# Altium footprint library wes-iot.PcbLib: 3 footprints
Each footprint in its own frame and in the unit in brackets; x right, y up, seen from the top. Pads: shape width x height; smd on the part's side, far side on the other; paste and mask are expansions set on the pad; w line width, h text height; cw(c..) or ccw(c..) is an arc to the next point about the centre after c.
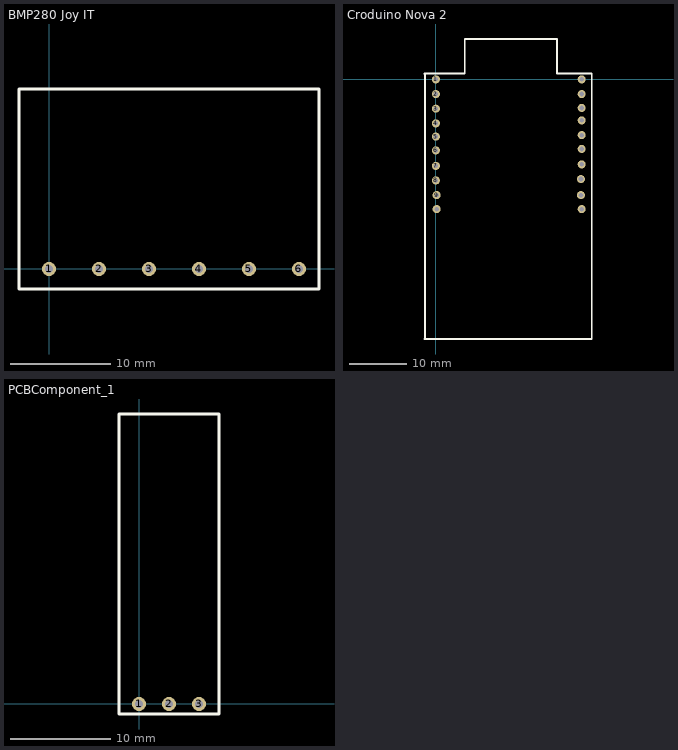
[diagram p0: the footprints below, top view; thin cyan lines are the x and y axes]

## BMP280 Joy IT [mm]
pads (6):
  round 1.4 hole 0.8: 1(0,0) 2(5,0) 3(10,0) 4(15,0) 5(20,0) 6(25,0)
Top Overlay:
  lines w0.31: -3,-2 27,-2 27,18 -3,18 -3,-2

## Croduino Nova 2 [mm]
pads (20):
  round 1.4 hole 0.8: 1(0,0) 2(0,-2.54) 3(0,-5.08) 4(0,-7.62) 5(0,-9.906) 6(0,-12.319) 7(0,-14.986) 8(0,-17.526) 9(0.127,-20.066) 10(0.127,-22.479) 11(25.273,0) 12(25.273,-2.54) 13(25.273,-4.953) 14(25.273,-7.112) 15(25.273,-9.652) 16(25.273,-12.065) 17(25.273,-14.732) 18(25.146,-17.272) 19(25.146,-20.066) 20(25.273,-22.479)
Top Overlay:
  lines w0.31: -2,-45 27,-45 27,1 21,1 21,7 5,7 5,2 5,1 -2,1 -1.905,0.905 -1.905,0.508 -1.905,-44.958

## PCBComponent_1 [mm]
pads (3):
  round 1.4 hole 0.8: 1(0,0) 2(3,0) 3(6,0)
Top Overlay:
  lines w0.31: -2,-1 8,-1 8,29 -2,29 -2,-1